# EAGLE library part LM4250 (library trash-robot-eagle-library)
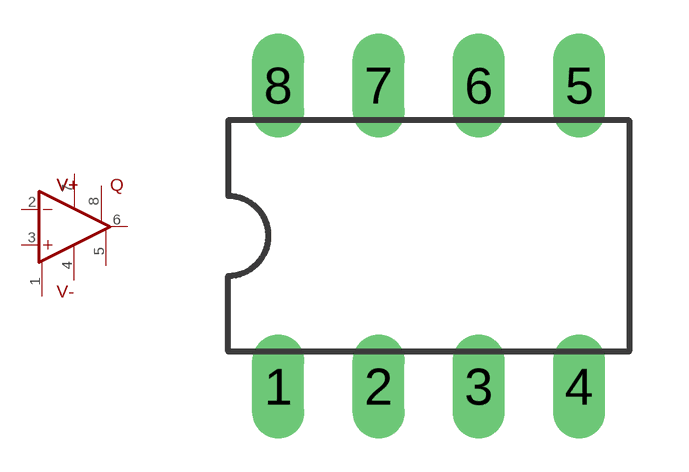
[diagram p18: symbol with the pads of DIP08; footprint DIP08]

Designator prefix -

## LM4250  [DIP08]
1  NULL1
2  -IN  in
3  +IN  in
4  V-  pwr
5  NULL2
6  OUT  out
7  V+  pwr
8  QUIES

## Footprint DIP08 (pad centres in mm)
drill 0.813 long: 1 -2.54,-3.81; 2 0,-3.81; 3 2.54,-3.81; 4 5.08,-3.81; 5 5.08,3.81; 6 2.54,3.81; 7 0,3.81; 8 -2.54,3.81